# Altium schematic symbol library BB-SWN-C-1-HW_MODULE.SchLib: 1 symbol
Pins are listed as number, name and electrical type; pins without a type are passive.

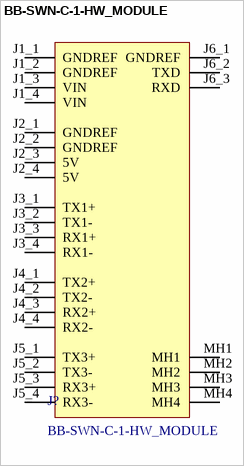
[diagram p0: symbol BB-SWN-C-1-HW_MODULE]

## BB-SWN-C-1-HW_MODULE
designator J?
footprint BB-SWN-C-1-HW_MODULE (Footprint not found)
pins: J1_1 GNDREF, J1_2 GNDREF, J1_3 VIN (power), J1_4 VIN (power), J2_1 GNDREF (power), J2_2 GNDREF (power), J2_3 5V (power), J2_4 5V (power), J3_1 TX1+, J3_2 TX1-, J3_3 RX1+, J3_4 RX1-, J4_1 TX2+, J4_2 TX2-, J4_3 RX2+, J4_4 RX2-, J5_1 TX3+, J5_2 TX3-, J5_3 RX3+, J5_4 RX3-, J6_1 GNDREF (power), J6_2 TXD, J6_3 RXD, MH1, MH2, MH3, MH4